# Altium schematic symbol library Sch_components.SchLib: 34 symbols (part 1 of 2)
Pins are listed as number, name and electrical type; pins without a type are passive.

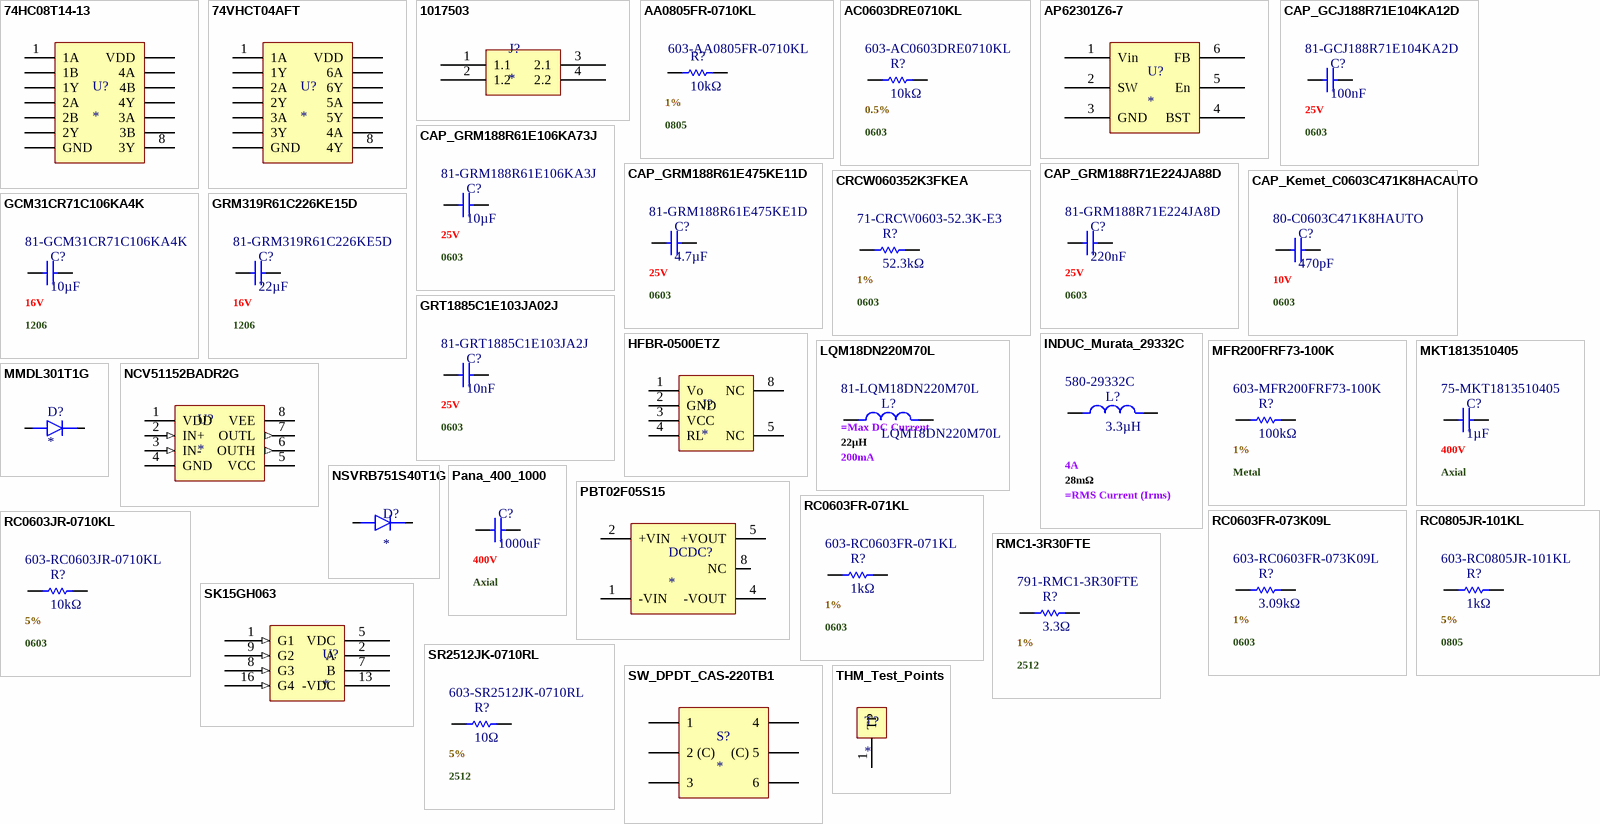
[diagram p0: symbols 74HC08T14-13 to THM_Test_Points]

## 74HC08T14-13
designator U?
footprint 74HC08T14-13 (TSOP, 14-Leads, Body 5,00x4,40mm, Pitch 0,65mm, IPC Medium Density)
pins: 1 1A, 2 1B, 3 1Y, 4 2A, 5 2B, 6 2Y, 7 GND, 8 3Y, 9 3B, 10 3A, 11 4Y, 12 4B, 13 4A, 14 VDD

## 74VHCT04AFT
designator U?
footprint 74VHCT04AFT (TSOP, 14-Leads, Body 5,00x4,40mm, Pitch 0,65mm, IPC Medium Density)
pins: 1 1A, 2 1Y, 3 2A, 4 2Y, 5 3A, 6 3Y, 7 GND, 8 4Y, 9 4A, 10 5Y, 11 5A, 12 6Y, 13 6A, 14 VDD

## 1017503
designator J?
footprint CONN_1017491
pins: 1 1.1, 2 1.2, 3 2.1 (power), 4 2.2 (power)

## AA0805FR-0710KL
designator R?, comment 10kΩ  .Case/Package: 0805  .Tolerance: 1%  Supplier Part Number 2: 603-AA0805FR-0710KL
Fixed Resistor, Metal Glaze/thick Film, 0.125W, 10000ohm, 150V, 1% +/-Tol, 150ppm/Cel, Surface Mount, 0805; Manufacturer: Yageo Group; Manufacturer Part Number: AA0805FR-0710KL; Power Dissipation: 125mW; Temperature Coefficient: 100ppm/°C; Supplier 1: Mouser; RoHS: Compliant; Category: Chip SMD Resistors; Stock 1: 25236; Pricing 1: 1=0,1, 10=0,010, 50=0,010, 100=0,006, 1000=0,006, 10000=0,004 (USD); Case/Package: 0805; Case Code (Imperial): 0805; Case Code (Metric): 2012; China RoHS: Non-Compliant; Composition: Thick Film; Contact Plating: Tin; Country of Origin: Mainland China, Taiwan; Depth: 1.25mm; Export Control Classification Number (ECCN) Code: EAR99; Height: 500µm; Harmonized Tariff Schedule (HTS) Code: 8533.21.00.30; Introduction Date: 2004-09-22; Length: 2mm; Lifecycle Status: Production; Max Operating Temperature: 155°C; Military Standard: Not; Min Operating Temperature: -55°C; Mount: Surface Mount; Number of Pins: 2; Number of Terminals: 2; Packaging: Tape & Reel; Power Rating: 125mW; Radiation Hardening: No; REACH SVHC: Yes; Resistance: 10kΩ; Schedule B: 8533210045; Termination: SMD/SMT; Tolerance: 1%; Voltage Rating: 150V; Voltage Rating (DC): 150V; Width: 1.25mm; Working Voltage: 150V; ComponentLink1URL: https://datasheet.octopart.com:443/RC0805JR-101KL-Yageo-datasheet-175887523.pdf?src-supplier=IHS; ComponentLink1Description: https://datasheet.octopart.com:443/RC0805JR-101KL-Yageo-datasheet-175887523.pdf?src-supplier=IHS; ComponentLink2URL: https://datasheet.octopart.com:443/RC0805JR-101KL-Yageo-datasheet-8330313.pdf?src-supplier=element14+APAC; ComponentLink2Description: https://datasheet.octopart.com:443/RC0805JR-101KL-Yageo-datasheet-8330313.pdf?src-supplier=element14+APAC; ComponentLink3URL: https://datasheet.octopart.com/RC0805JR-101KL-Yageo-datasheet-73766026.pdf; ComponentLink3Description: https://datasheet.octopart.com/RC0805JR-101KL-Yageo-datasheet-73766026.pdf; ComponentLink4URL: http://sigma.octopart.com:80/conflict_mineral_statement/Yageo-company-3.pdf?src-supplier=Compliance+Statements; ComponentLink4Description: http://sigma.octopart.com:80/conflict_mineral_statement/Yageo-company-3.pdf?src-supplier=Compliance+Statements; ComponentLink5URL: http://sigma.octopart.com:80/rohs_statement/Yageo-company-2.pdf?src-supplier=Compliance+Statements; ComponentLink5Description: http://sigma.octopart.com:80/rohs_statement/Yageo-company-2.pdf?src-supplier=Compliance+Statements; Supplier 2: Mouser; Stock 2: 14567; Pricing 2: 1=0,1, 10=0,015, 50=0,015, 100=0,015, 1000=0,015, 10000=0,012 (USD); Features: Anti-Sulfur, Automotive AEC-Q200, Moisture Resistant; Max Power Dissipation: 125mW; Number of Terminations: 2; ComponentLink6URL: https://datasheet.octopart.com:443/AA0805FR-0710KL-Yageo-datasheet-178056446.pdf?src-supplier=IHS; ComponentLink6Description: https://datasheet.octopart.com:443/AA0805FR-0710KL-Yageo-datasheet-178056446.pdf?src-supplier=IHS
footprint RC0805JR-101KL (Chip Resistor, 2-Leads, Body 2,00x1,25mm, IPC Medium Density)
pins: 1, 2

## AC0603DRE0710KL
designator R?, comment 10kΩ  .Case/Package: 0603  .Tolerance: 0.5%  Supplier Part Number 1: 603-AC0603DRE0710KL
Chip Resistor Automotive Precision Grade Thick Film 0603 10kOhm 0.5% Paper T/R; Manufacturer: Yageo Group; Manufacturer Part Number: AC0603DRE0710KL; Power Dissipation: 100mW; Temperature Coefficient: 50ppm/°C; Working Voltage: 75V; Supplier 1: Mouser; RoHS: Compliant; Category: Chip SMD Resistors; Stock 1: 3496; Pricing 1: 1=0,11, 10=0,061, 50=0,061, 100=0,045, 1000=0,031, 10000=0,02 (USD); Case/Package: 0603; China RoHS: Non-Compliant; Country of Origin: Mainland China, Taiwan; Export Control Classification Number (ECCN) Code: EAR99; Height: 450µm; Harmonized Tariff Schedule (HTS) Code: 8533.21.00.30; Introduction Date: 2016-03-14; Length: 1.6mm; Lifecycle Status: Production; Max Operating Temperature: 155°C; Min Operating Temperature: -55°C; Mount: Surface Mount; Number of Terminals: 2; Packaging: Tape & Reel; REACH SVHC: Yes; Resistance: 10kΩ; Tolerance: 0.5%; Width: 800µm; ComponentLink1URL: https://datasheet.octopart.com:443/AC0603DRE0710KL-Yageo-datasheet-182189378.pdf?src-supplier=IHS; ComponentLink1Description: https://datasheet.octopart.com:443/AC0603DRE0710KL-Yageo-datasheet-182189378.pdf?src-supplier=IHS; ComponentLink2URL: https://datasheet.octopart.com:443/AC0603DRE0710KL-Yageo-datasheet-178509465.pdf?src-supplier=Newark; ComponentLink2Description: https://datasheet.octopart.com:443/AC0603DRE0710KL-Yageo-datasheet-178509465.pdf?src-supplier=Newark; ComponentLink3URL: https://datasheet.octopart.com/AC0603DRE0710KL-Yageo-datasheet-12512238.pdf; ComponentLink3Description: https://datasheet.octopart.com/AC0603DRE0710KL-Yageo-datasheet-12512238.pdf; ComponentLink4URL: http://sigma.octopart.com:80/conflict_mineral_statement/Yageo-company-3.pdf?src-supplier=Compliance+Statements; ComponentLink4Description: http://sigma.octopart.com:80/conflict_mineral_statement/Yageo-company-3.pdf?src-supplier=Compliance+Statements; ComponentLink5URL: http://sigma.octopart.com:80/rohs_statement/Yageo-company-2.pdf?src-supplier=Compliance+Statements; ComponentLink5Description: http://sigma.octopart.com:80/rohs_statement/Yageo-company-2.pdf?src-supplier=Compliance+Statements
footprint R0603 - YAGEO
pins: 1, 2

## AP62301Z6-7
designator U?
Reguladores de voltaje de conmutación DCDC Conv HV Buck SOT563(STD) T&R 3K
footprint AP62301Z6-6N (SOTFL, 6-Leads, Body 1,60x1,60mm, Pitch 0,50mm, IPC Medium Density)
pins: 1 Vin, 2 SW, 3 GND, 4 BST, 5 En, 6 FB

## CAP_GCJ188R71E104KA12D
designator C?, comment 100nF  .Case/Package: 0603  .Voltage Rating (DC): 25V  Supplier Part Number 1: 81-GCJ188R71E104KA2D
Ceramic Capacitor, Ceramic, 25V, 10% +Tol, 10% -Tol, X7R, 15% TC, 0.1uF, Surface Mount, 0603; Manufacturer: Murata; Manufacturer Part Number: GCJ188R71E104KA12D; Manufacturer Lifecycle Status: IN PRODUCTION; Supplier 1: Mouser; RoHS: Compliant; Category: Ceramic Capacitors; Stock 1: 19671; Pricing 1: 1=0,13, 10=0,051, 50=0,051, 100=0,043, 1000=0,029, 10000=0,022 (USD); Capacitance: 100nF; Case/Package: 0603; Dielectric Material: Ceramic; Height: 800µm; Length: 1.6mm; Lifecycle Status: Production; Material: Ceramic; Max Operating Temperature: 125°C; Min Operating Temperature: -55°C; Mount: Surface Mount; Number of Terminals: 2; REACH SVHC: Yes; Schedule B: 8532240020, 8532240020|8532240020, 8532240020|8532240020|8532240020, 8532240020|8532240020|8532240020|8532240020; Thickness: 800µm; Tolerance: 10%; Voltage Rating: 25V; Voltage Rating (DC): 25V; Width: 800µm; ComponentLink1URL: https://datasheet.octopart.com:443/GCJ188R71E104KA12D-Murata-datasheet-149522263.pdf?src-supplier=Newark; ComponentLink1Description: https://datasheet.octopart.com:443/GCJ188R71E104KA12D-Murata-datasheet-149522263.pdf?src-supplier=Newark; ComponentLink2URL: https://datasheet.octopart.com:443/GCJ188R71E104KA12D-Murata-datasheet-141264622.pdf?src-supplier=Geoflip; ComponentLink2Description: https://datasheet.octopart.com:443/GCJ188R71E104KA12D-Murata-datasheet-141264622.pdf?src-supplier=Geoflip; ComponentLink3URL: https://datasheet.octopart.com:443/GCJ188R71E104KA12D-Murata-datasheet-140654708.pdf?src-supplier=Ciiva; ComponentLink3Description: https://datasheet.octopart.com:443/GCJ188R71E104KA12D-Murata-datasheet-140654708.pdf?src-supplier=Ciiva; ComponentLink4URL: https://datasheet.octopart.com:443/GCJ188R71E104KA12D-Murata-datasheet-138714381.pdf?src-supplier=Ciiva; ComponentLink4Description: https://datasheet.octopart.com:443/GCJ188R71E104KA12D-Murata-datasheet-138714381.pdf?src-supplier=Ciiva; ComponentLink5URL: https://datasheet.octopart.com:443/GCJ188R71E104KA12D-Murata-datasheet-165611796.pdf?src-supplier=TME; ComponentLink5Description: https://datasheet.octopart.com:443/GCJ188R71E104KA12D-Murata-datasheet-165611796.pdf?src-supplier=TME; ComponentLink6URL: http://sigma.octopart.com:80/reach_statement/Murata-company-16.pdf?src-supplier=Compliance+Statements; ComponentLink6Description: http://sigma.octopart.com:80/reach_statement/Murata-company-16.pdf?src-supplier=Compliance+Statements
footprint GRM188R71E224JA88D (Chip Capacitor, 2-Leads, Body 1,60x0,80mm, IPC Medium Density)
pins: 1, 2

## CAP_GRM188R61E106KA73J
designator C?, comment 10µF  .Case/Package: 0603  .Voltage Rating (DC): 25V  Supplier Part Number 1: 81-GRM188R61E106KA3J
Multilayer Ceramic Capacitor, 10 uF, 25 V, 10%, X5R, 0603 1608 Metric - T/R; Manufacturer: Murata; Manufacturer Part Number: GRM188R61E106KA73J; Manufacturer Lifecycle Status: IN PRODUCTION; Supplier 1: Mouser; RoHS: Compliant; Category: Ceramic Capacitors; Stock 1: 115551; Pricing 1: 1=0,23, 10=0,097, 50=0,097, 100=0,086, 1000=0,06, 10000=0,047 (USD); Capacitance: 10µF; Case/Package: 0603; Dielectric: X5R; Dielectric Material: Ceramic; Height: 800µm; Length: 1.6mm; Lifecycle Status: Production; Material: Ceramic; Max Operating Temperature: 85°C; Min Operating Temperature: -55°C; Mount: Surface Mount; Number of Terminals: 2; REACH SVHC: Yes; Thickness: 800µm; Tolerance: 10%; Voltage Rating: 25V; Voltage Rating (DC): 25V; Width: 800µm; ComponentLink1URL: https://datasheet.octopart.com:443/GRM188R61E106KA73J-Murata-datasheet-165579666.pdf?src-supplier=TME; ComponentLink1Description: https://datasheet.octopart.com:443/GRM188R61E106KA73J-Murata-datasheet-165579666.pdf?src-supplier=TME; ComponentLink2URL: https://datasheet.octopart.com:443/GRM188R61E106KA73J-Murata-datasheet-141274968.pdf?src-supplier=Ciiva; ComponentLink2Description: https://datasheet.octopart.com:443/GRM188R61E106KA73J-Murata-datasheet-141274968.pdf?src-supplier=Ciiva; ComponentLink3URL: https://datasheet.octopart.com:443/GRM188R61E106KA73J-Murata-datasheet-140704821.pdf?src-supplier=Ciiva; ComponentLink3Description: https://datasheet.octopart.com:443/GRM188R61E106KA73J-Murata-datasheet-140704821.pdf?src-supplier=Ciiva; ComponentLink4URL: https://datasheet.octopart.com:443/GRM188R61E106KA73J-Murata-datasheet-138742889.pdf?src-supplier=Ciiva; ComponentLink4Description: https://datasheet.octopart.com:443/GRM188R61E106KA73J-Murata-datasheet-138742889.pdf?src-supplier=Ciiva; ComponentLink5URL: https://datasheet.octopart.com/GRM188R61E106KA73J-Murata-datasheet-12515295.pdf; ComponentLink5Description: https://datasheet.octopart.com/GRM188R61E106KA73J-Murata-datasheet-12515295.pdf; ComponentLink6URL: https://datasheet.octopart.com/GRM188R61E106KA73J-Murata-datasheet-12510076.pdf; ComponentLink6Description: https://datasheet.octopart.com/GRM188R61E106KA73J-Murata-datasheet-12510076.pdf; ComponentLink7URL: https://datasheet.octopart.com/GRM188R61E106KA73J-Murata-datasheet-11978611.pdf; ComponentLink7Description: https://datasheet.octopart.com/GRM188R61E106KA73J-Murata-datasheet-11978611.pdf; ComponentLink8URL: https://datasheet.octopart.com/GRM188R61E106KA73J-Murata-datasheet-10025737.pdf; ComponentLink8Description: https://datasheet.octopart.com/GRM188R61E106KA73J-Murata-datasheet-10025737.pdf; ComponentLink9URL: https://datasheet.octopart.com/GRM188R61E106KA73J-Murata-datasheet-8819587.pdf; ComponentLink9Description: https://datasheet.octopart.com/GRM188R61E106KA73J-Murata-datasheet-8819587.pdf; ComponentLink10URL: http://sigma.octopart.com:80/reach_statement/Murata-company-16.pdf?src-supplier=Compliance+Statements; ComponentLink10Description: http://sigma.octopart.com:80/reach_statement/Murata-company-16.pdf?src-supplier=Compliance+Statements
footprint GRM188R71E224JA88D (Chip Capacitor, 2-Leads, Body 1,60x0,80mm, IPC Medium Density)
pins: 1, 2

## CAP_GRM188R61E475KE11D
designator C?, comment 4.7µF  .Case/Package: 0603  .Voltage Rating (DC): 25V  Supplier Part Number 1: 81-GRM188R61E475KE1D
0603 4.7 uF 25 V ±10 % Tolerance X5R SMT Multilayer Ceramic Capacitor; Manufacturer: Murata; Manufacturer Part Number: GRM188R61E475KE11D; Manufacturer Lifecycle Status: IN PRODUCTION; Tolerance: 10%; Supplier 1: Mouser; RoHS: Compliant; Category: Ceramic Capacitors; Stock 1: 187011; Pricing 1: 1=0,1, 10=0,036, 50=0,036, 100=0,036, 1000=0,036, 10000=0,03 (USD); Capacitance: 4.7µF; Case/Package: 0603; Case Code (Imperial): 0603; Case Code (Metric): 1608; Depth: 800µm; Dielectric: X5R; Dielectric Material: Ceramic; Height: 800µm; Lead Free: Lead Free; Length: 1.6mm; Lifecycle Status: Production; Material: Ceramic; Max Operating Temperature: 85°C; Min Operating Temperature: -55°C; Mount: Surface Mount; Number of Terminals: 2; REACH SVHC: Yes; Schedule B: 8532240020, 8532240020|8532240020, 8532240020|8532240020|8532240020, 8532240020|8532240020|8532240020|8532240020; Thickness: 800µm; Voltage: 25V; Voltage Rating: 25V; Voltage Rating (DC): 25V; Width: 800µm; ComponentLink1URL: https://datasheet.octopart.com:443/GRM188R61E475KE11D-Murata-datasheet-27203393.pdf?src-supplier=Newark; ComponentLink1Description: https://datasheet.octopart.com:443/GRM188R61E475KE11D-Murata-datasheet-27203393.pdf?src-supplier=Newark; ComponentLink2URL: https://datasheet.octopart.com:443/GRM188R61E475KE11D-Murata-datasheet-44506546.pdf?src-supplier=Newark; ComponentLink2Description: https://datasheet.octopart.com:443/GRM188R61E475KE11D-Murata-datasheet-44506546.pdf?src-supplier=Newark; ComponentLink3URL: https://datasheet.octopart.com:443/GRM188R61E475KE11D-Murata-datasheet-62317199.pdf?src-supplier=element14+APAC; ComponentLink3Description: https://datasheet.octopart.com:443/GRM188R61E475KE11D-Murata-datasheet-62317199.pdf?src-supplier=element14+APAC; ComponentLink4URL: https://datasheet.octopart.com:443/GRM188R61E475KE11D-Murata-datasheet-14397282.pdf?src-supplier=Future+Electronics; ComponentLink4Description: https://datasheet.octopart.com:443/GRM188R61E475KE11D-Murata-datasheet-14397282.pdf?src-supplier=Future+Electronics; ComponentLink5URL: https://datasheet.octopart.com:443/GRM188R61E475KE11D-Murata-datasheet-78375012.pdf?src-supplier=Future+Electronics; ComponentLink5Description: https://datasheet.octopart.com:443/GRM188R61E475KE11D-Murata-datasheet-78375012.pdf?src-supplier=Future+Electronics; ComponentLink6URL: https://datasheet.octopart.com:443/GRM188R61E475KE11D-Murata-datasheet-179108037.pdf?src-supplier=Arrow.cn; ComponentLink6Description: https://datasheet.octopart.com:443/GRM188R61E475KE11D-Murata-datasheet-179108037.pdf?src-supplier=Arrow.cn; ComponentLink7URL: https://datasheet.octopart.com:443/GRM188R61E475KE11D-Murata-datasheet-165579666.pdf?src-supplier=TME; ComponentLink7Description: https://datasheet.octopart.com:443/GRM188R61E475KE11D-Murata-datasheet-165579666.pdf?src-supplier=TME; ComponentLink8URL: https://datasheet.octopart.com:443/GRM188R61E475KE11D-Murata-datasheet-141274968.pdf?src-supplier=Ciiva; ComponentLink8Description: https://datasheet.octopart.com:443/GRM188R61E475KE11D-Murata-datasheet-141274968.pdf?src-supplier=Ciiva; ComponentLink9URL: https://datasheet.octopart.com:443/GRM188R61E475KE11D-Murata-datasheet-140705133.pdf?src-supplier=Ciiva; ComponentLink9Description: https://datasheet.octopart.com:443/GRM188R61E475KE11D-Murata-datasheet-140705133.pdf?src-supplier=Ciiva; ComponentLink10URL: https://datasheet.octopart.com:443/GRM188R61E475KE11D-Murata-datasheet-138742897.pdf?src-supplier=Ciiva; ComponentLink10Description: https://datasheet.octopart.com:443/GRM188R61E475KE11D-Murata-datasheet-138742897.pdf?src-supplier=Ciiva; ComponentLink11URL: https://datasheet.octopart.com/GRM188R61E475KE11D-Murata-datasheet-12515295.pdf; ComponentLink11Description: https://datasheet.octopart.com/GRM188R61E475KE11D-Murata-datasheet-12515295.pdf; ComponentLink12URL: https://datasheet.octopart.com/GRM188R61E475KE11D-Murata-datasheet-12510076.pdf; ComponentLink12Description: https://datasheet.octopart.com/GRM188R61E475KE11D-Murata-datasheet-12510076.pdf; ComponentLink13URL: https://datasheet.octopart.com/GRM188R61E475KE11D-Murata-datasheet-11978611.pdf; ComponentLink13Description: https://datasheet.octopart.com/GRM188R61E475KE11D-Murata-datasheet-11978611.pdf; ComponentLink14URL: https://datasheet.octopart.com/GRM188R61E475KE11D-Murata-datasheet-10025737.pdf; ComponentLink14Description: https://datasheet.octopart.com/GRM188R61E475KE11D-Murata-datasheet-10025737.pdf; ComponentLink15URL: https://datasheet.octopart.com/GRM188R61E475KE11D-Murata-datasheet-8819587.pdf; ComponentLink15Description: https://datasheet.octopart.com/GRM188R61E475KE11D-Murata-datasheet-8819587.pdf; ComponentLink16URL: http://sigma.octopart.com:80/reach_statement/Murata-company-16.pdf?src-supplier=Compliance+Statements; ComponentLink16Description: http://sigma.octopart.com:80/reach_statement/Murata-company-16.pdf?src-supplier=Compliance+Statements
footprint GRM188R71E224JA88D (Chip Capacitor, 2-Leads, Body 1,60x0,80mm, IPC Medium Density)
pins: 1, 2

## CAP_GRM188R71E224JA88D
designator C?, comment 220nF  .Case/Package: 0603  .Voltage Rating (DC): 25V  Supplier Part Number 1: 81-GRM188R71E224JA8D
Ceramic Capacitor, Ceramic, 25V, 5% +Tol, 5% -Tol, X7R, 15% TC, 0.22uF, Surface Mount, 0603; Manufacturer: Murata; Manufacturer Part Number: GRM188R71E224JA88D; Manufacturer Lifecycle Status: IN PRODUCTION; Supplier 1: Mouser; RoHS: Compliant; Category: Ceramic Capacitors; Stock 1: 27729; Pricing 1: 1=0,1, 10=0,038, 50=0,038, 100=0,032, 1000=0,021, 10000=0,016 (USD); Capacitance: 220nF; Case/Package: 0603; Dielectric: X7R; Dielectric Material: Ceramic; Height: 800µm; Length: 1.6mm; Lifecycle Status: Production; Material: Ceramic; Max Operating Temperature: 125°C; Min Operating Temperature: -55°C; Mount: Surface Mount; Number of Terminals: 2; REACH SVHC: Yes; Thickness: 800µm; Tolerance: 5%; Voltage Rating: 25V; Voltage Rating (DC): 25V; Width: 800µm; ComponentLink1URL: https://datasheet.octopart.com:443/GRM188R71E224JA88D-Murata-datasheet-141275257.pdf?src-supplier=Geoflip; ComponentLink1Description: https://datasheet.octopart.com:443/GRM188R71E224JA88D-Murata-datasheet-141275257.pdf?src-supplier=Geoflip; ComponentLink2URL: https://datasheet.octopart.com:443/GRM188R71E224JA88D-Murata-datasheet-155239114.pdf?src-supplier=element14+APAC; ComponentLink2Description: https://datasheet.octopart.com:443/GRM188R71E224JA88D-Murata-datasheet-155239114.pdf?src-supplier=element14+APAC; ComponentLink3URL: https://datasheet.octopart.com:443/GRM188R71E224JA88D-Murata-datasheet-165579666.pdf?src-supplier=TME; ComponentLink3Description: https://datasheet.octopart.com:443/GRM188R71E224JA88D-Murata-datasheet-165579666.pdf?src-supplier=TME; ComponentLink4URL: https://datasheet.octopart.com:443/GRM188R71E224JA88D-Murata-datasheet-140705547.pdf?src-supplier=Ciiva; ComponentLink4Description: https://datasheet.octopart.com:443/GRM188R71E224JA88D-Murata-datasheet-140705547.pdf?src-supplier=Ciiva; ComponentLink5URL: https://datasheet.octopart.com:443/GRM188R71E224JA88D-Murata-datasheet-138743095.pdf?src-supplier=Ciiva; ComponentLink5Description: https://datasheet.octopart.com:443/GRM188R71E224JA88D-Murata-datasheet-138743095.pdf?src-supplier=Ciiva; ComponentLink6URL: https://datasheet.octopart.com/GRM188R71E224JA88D-Murata-datasheet-12515295.pdf; ComponentLink6Description: https://datasheet.octopart.com/GRM188R71E224JA88D-Murata-datasheet-12515295.pdf; ComponentLink7URL: https://datasheet.octopart.com/GRM188R71E224JA88D-Murata-datasheet-12510076.pdf; ComponentLink7Description: https://datasheet.octopart.com/GRM188R71E224JA88D-Murata-datasheet-12510076.pdf; ComponentLink8URL: https://datasheet.octopart.com/GRM188R71E224JA88D-Murata-datasheet-11978611.pdf; ComponentLink8Description: https://datasheet.octopart.com/GRM188R71E224JA88D-Murata-datasheet-11978611.pdf; ComponentLink9URL: https://datasheet.octopart.com/GRM188R71E224JA88D-Murata-datasheet-10025737.pdf; ComponentLink9Description: https://datasheet.octopart.com/GRM188R71E224JA88D-Murata-datasheet-10025737.pdf; ComponentLink10URL: https://datasheet.octopart.com/GRM188R71E224JA88D-Murata-datasheet-8819587.pdf; ComponentLink10Description: https://datasheet.octopart.com/GRM188R71E224JA88D-Murata-datasheet-8819587.pdf; ComponentLink11URL: https://datasheet.octopart.com/GRM188R71E224JA88D-Murata-datasheet-38895632.pdf; ComponentLink11Description: https://datasheet.octopart.com/GRM188R71E224JA88D-Murata-datasheet-38895632.pdf; ComponentLink12URL: http://sigma.octopart.com:80/reach_statement/Murata-company-16.pdf?src-supplier=Compliance+Statements; ComponentLink12Description: http://sigma.octopart.com:80/reach_statement/Murata-company-16.pdf?src-supplier=Compliance+Statements
footprint GRM188R71E224JA88D (Chip Capacitor, 2-Leads, Body 1,60x0,80mm, IPC Medium Density)
pins: 1, 2

## CAP_Kemet_C0603C471K8HACAUTO
designator C?, comment 470pF  .Case/Package: 0603  .Voltage Rating (DC): 10V  Supplier Part Number 1: 80-C0603C471K8HAUTO
Cap, 470Pf, 10V, Mlcc, 0603 Rohs Compliant: Yes |Kemet C0603C471K8HACAUTO; Manufacturer: KEMET; Dielectric: X8R; Dielectric Material: Ceramic; Temperature Coefficient: 30ppm/°C; Supplier 1: Mouser; Manufacturer Part Number: C0603C471K8HACAUTO; RoHS: Compliant; Category: Ceramic Capacitors; Stock 1: 9072; Pricing 1: 1=0,1, 10=0,036, 50=0,036, 100=0,031, 1000=0,021, 10000=0,012 (USD); Capacitance: 470pF; Case/Package: 0603; China RoHS: Compliant; Height: 800µm; Lead Free: Lead Free; Length: 1.6mm; Lifecycle Status: Production; Material: Ceramic; Max Operating Temperature: 150°C; Min Operating Temperature: -55°C; Mount: Surface Mount; Number of Terminals: 2; REACH SVHC: Yes; Voltage Rating: 10V; Voltage Rating (DC): 10V; Width: 800µm; ComponentLink1URL: https://datasheet.octopart.com:443/C0603C471K8HACAUTO-KEMET-datasheet-178087918.pdf?src-supplier=IHS; ComponentLink1Description: https://datasheet.octopart.com:443/C0603C471K8HACAUTO-KEMET-datasheet-178087918.pdf?src-supplier=IHS; ComponentLink2URL: https://datasheet.octopart.com:443/C0603C471K8HACAUTO-KEMET-datasheet-137357764.pdf?src-supplier=Upverter; ComponentLink2Description: https://datasheet.octopart.com:443/C0603C471K8HACAUTO-KEMET-datasheet-137357764.pdf?src-supplier=Upverter; ComponentLink3URL: https://datasheet.octopart.com:443/C0603C471K8HACAUTO-KEMET-datasheet-189885776.pdf?src-supplier=element14+APAC; ComponentLink3Description: https://datasheet.octopart.com:443/C0603C471K8HACAUTO-KEMET-datasheet-189885776.pdf?src-supplier=element14+APAC; ComponentLink4URL: https://datasheet.octopart.com:443/C0603C471K8HACAUTO-KEMET-datasheet-170520340.pdf?src-supplier=Newark; ComponentLink4Description: https://datasheet.octopart.com:443/C0603C471K8HACAUTO-KEMET-datasheet-170520340.pdf?src-supplier=Newark; ComponentLink5URL: https://datasheet.octopart.com:443/C0603C471K8HACAUTO-KEMET-datasheet-154276014.pdf?src-supplier=Farnell; ComponentLink5Description: https://datasheet.octopart.com:443/C0603C471K8HACAUTO-KEMET-datasheet-154276014.pdf?src-supplier=Farnell; ComponentLink6URL: https://datasheet.octopart.com/C0603C471K8HACAUTO-KEMET-datasheet-84169754.pdf; ComponentLink6Description: https://datasheet.octopart.com/C0603C471K8HACAUTO-KEMET-datasheet-84169754.pdf
footprint C0603 - MURATA
pins: 1, 2

## CRCW060352K3FKEA
designator R?, comment 52.3kΩ  .Case/Package: 0603  .Tolerance: 1%  Supplier Part Number 1: 71-CRCW0603-52.3K-E3
100mW Thick Film Resistors 75V ±1% ±100ppm/℃ 52.3kΩ 0603 Chip Resistor - Surface Mount ROHS; Manufacturer: Vishay; Manufacturer Part Number: CRCW060352K3FKEA; Temperature Coefficient: 100ppm/°C; Supplier 1: Mouser; RoHS: Compliant; Category: Chip SMD Resistors; Stock 1: 40752; Pricing 1: 1=0,1, 10=0,019, 50=0,019, 100=0,015, 1000=0,009, 10000=0,004 (USD); Case/Package: 0603; Case Code (Imperial): 0603; China RoHS: Non-Compliant; Composition: Thick Film; Contact Plating: Tin; Country of Origin: Israel, Taiwan; Depth: 850µm; Export Control Classification Number (ECCN) Code: EAR99; Features: Automotive AEC-Q200; Height: 450µm; Harmonized Tariff Schedule (HTS) Code: 8533.21.00.30; Introduction Date: 2005-02-16; Lead Free: Lead Free; Length: 1.55mm; Lifecycle Status: Production; Max Operating Temperature: 155°C; Max Power Dissipation: 100mW; Military Standard: Not; Min Operating Temperature: -55°C; Mount: Surface Mount; Number of Pins: 2; Number of Terminals: 2; Number of Terminations: 2; Packaging: Cut Tape; Power Dissipation: 100mW; Power Rating: 100mW; Radiation Hardening: No; REACH SVHC: Yes; Resistance: 52.3kΩ; Schedule B: 8533210045, 8533210045|8533210045, 8533210045|8533210045|8533210045, 8533210045|8533210045|8533210045|8533210045; Termination: SMD/SMT; Tolerance: 1%; Voltage Rating: 75V; Weight: 2.012816mg; Width: 850µm; Working Voltage: 75V; ComponentLink1URL: https://datasheet.octopart.com:443/CRCW060352K3FKEA-Vishay-datasheet-175423584.pdf?src-supplier=IHS; ComponentLink1Description: https://datasheet.octopart.com:443/CRCW060352K3FKEA-Vishay-datasheet-175423584.pdf?src-supplier=IHS; ComponentLink2URL: https://datasheet.octopart.com:443/CRCW060352K3FKEA-Vishay-datasheet-62316122.pdf?src-supplier=Future+Electronics; ComponentLink2Description: https://datasheet.octopart.com:443/CRCW060352K3FKEA-Vishay-datasheet-62316122.pdf?src-supplier=Future+Electronics; ComponentLink3URL: https://datasheet.octopart.com:443/CRCW060352K3FKEA-Vishay-datasheet-5300368.pdf?src-supplier=Future+Electronics; ComponentLink3Description: https://datasheet.octopart.com:443/CRCW060352K3FKEA-Vishay-datasheet-5300368.pdf?src-supplier=Future+Electronics; ComponentLink4URL: https://datasheet.octopart.com:443/CRCW060352K3FKEA.-Vishay-datasheet-83961561.pdf?src-supplier=Newark; ComponentLink4Description: https://datasheet.octopart.com:443/CRCW060352K3FKEA.-Vishay-datasheet-83961561.pdf?src-supplier=Newark; ComponentLink5URL: https://datasheet.octopart.com:443/CRCW060352K3FKEA-Vishay-datasheet-66077789.pdf?src-supplier=Newark; ComponentLink5Description: https://datasheet.octopart.com:443/CRCW060352K3FKEA-Vishay-datasheet-66077789.pdf?src-supplier=Newark; ComponentLink6URL: https://datasheet.octopart.com:443/CRCW060352K3FKEA-Vishay-datasheet-11761042.pdf?src-supplier=Newark; ComponentLink6Description: https://datasheet.octopart.com:443/CRCW060352K3FKEA-Vishay-datasheet-11761042.pdf?src-supplier=Newark; ComponentLink7URL: https://datasheet.octopart.com:443/CRCW060352K3FKEA-Vishay-datasheet-11516975.pdf?src-supplier=Newark; ComponentLink7Description: https://datasheet.octopart.com:443/CRCW060352K3FKEA-Vishay-datasheet-11516975.pdf?src-supplier=Newark; ComponentLink8URL: https://datasheet.octopart.com:443/CRCW060352K3FKEA-Vishay-datasheet-159614168.pdf?src-supplier=Newark; ComponentLink8Description: https://datasheet.octopart.com:443/CRCW060352K3FKEA-Vishay-datasheet-159614168.pdf?src-supplier=Newark; ComponentLink9URL: https://datasheet.octopart.com:443/CRCW060352K3FKEA-Vishay-datasheet-33013972.pdf?src-supplier=Newark; ComponentLink9Description: https://datasheet.octopart.com:443/CRCW060352K3FKEA-Vishay-datasheet-33013972.pdf?src-supplier=Newark; ComponentLink10URL: https://datasheet.octopart.com:443/CRCW060352K3FKEA-Vishay-datasheet-21268114.pdf?src-supplier=Newark; ComponentLink10Description: https://datasheet.octopart.com:443/CRCW060352K3FKEA-Vishay-datasheet-21268114.pdf?src-supplier=Newark; ComponentLink11URL: https://datasheet.octopart.com:443/CRCW060352K3FKEA-Vishay-datasheet-21226360.pdf?src-supplier=Newark; ComponentLink11Description: https://datasheet.octopart.com:443/CRCW060352K3FKEA-Vishay-datasheet-21226360.pdf?src-supplier=Newark; ComponentLink12URL: https://datasheet.octopart.com:443/CRCW060352K3FKEA-Vishay-datasheet-62317937.pdf?src-supplier=element14+APAC; ComponentLink12Description: https://datasheet.octopart.com:443/CRCW060352K3FKEA-Vishay-datasheet-62317937.pdf?src-supplier=element14+APAC; ComponentLink13URL: https://datasheet.octopart.com:443/CRCW060352K3FKEA.-Vishay-datasheet-78776209.pdf?src-supplier=element14+APAC; ComponentLink13Description: https://datasheet.octopart.com:443/CRCW060352K3FKEA.-Vishay-datasheet-78776209.pdf?src-supplier=element14+APAC; ComponentLink14URL: https://datasheet.octopart.com:443/CRCW060352K3FKEA-Vishay-datasheet-14722531.pdf?src-supplier=element14+APAC; ComponentLink14Description: https://datasheet.octopart.com:443/CRCW060352K3FKEA-Vishay-datasheet-14722531.pdf?src-supplier=element14+APAC; ComponentLink15URL: https://datasheet.octopart.com:443/CRCW060352K3FKEA-Vishay-datasheet-5299586.pdf?src-supplier=element14+APAC; ComponentLink15Description: https://datasheet.octopart.com:443/CRCW060352K3FKEA-Vishay-datasheet-5299586.pdf?src-supplier=element14+APAC; ComponentLink16URL: https://datasheet.octopart.com:443/CRCW060352K3FKEA-Vishay-datasheet-10380026.pdf?src-supplier=element14+APAC; ComponentLink16Description: https://datasheet.octopart.com:443/CRCW060352K3FKEA-Vishay-datasheet-10380026.pdf?src-supplier=element14+APAC; ComponentLink17URL: https://datasheet.octopart.com:443/CRCW060352K3FKEA-Vishay-datasheet-137114422.pdf?src-supplier=X-ON; ComponentLink17Description: https://datasheet.octopart.com:443/CRCW060352K3FKEA-Vishay-datasheet-137114422.pdf?src-supplier=X-ON; ComponentLink18URL: https://datasheet.octopart.com:443/CRCW060352K3FKEA-Vishay-Dale-datasheet-47688880.pdf?src-supplier=RS+(Formerly+Allied+Electronics); ComponentLink18Description: https://datasheet.octopart.com:443/CRCW060352K3FKEA-Vishay-Dale-datasheet-47688880.pdf?src-supplier=RS+(Formerly+Allied+Electronics); ComponentLink19URL: https://datasheet.octopart.com:443/CRCW060352K3FKEA-Vishay-datasheet-12001583.pdf?src-supplier=RS+(Formerly+Allied+Electronics); ComponentLink19Description: https://datasheet.octopart.com:443/CRCW060352K3FKEA-Vishay-datasheet-12001583.pdf?src-supplier=RS+(Formerly+Allied+Electronics); ComponentLink20URL: https://datasheet.octopart.com:443/CRCW060352K3FKEA-Vishay-datasheet-5306405.pdf?src-supplier=RS+(Formerly+Allied+Electronics); ComponentLink20Description: https://datasheet.octopart.com:443/CRCW060352K3FKEA-Vishay-datasheet-5306405.pdf?src-supplier=RS+(Formerly+Allied+Electronics); ComponentLink21URL: https://datasheet.octopart.com:443/CRCW060352K3FKEA-Vishay-datasheet-8619608.pdf?src-supplier=element14; ComponentLink21Description: https://datasheet.octopart.com:443/CRCW060352K3FKEA-Vishay-datasheet-8619608.pdf?src-supplier=element14; ComponentLink22URL: https://datasheet.octopart.com:443/CRCW060352K3FKEA-Vishay-datasheet-5377433.pdf?src-supplier=Garrett; ComponentLink22Description: https://datasheet.octopart.com:443/CRCW060352K3FKEA-Vishay-datasheet-5377433.pdf?src-supplier=Garrett; ComponentLink23URL: https://datasheet.octopart.com:443/CRCW060352K3FKEA-Vishay-datasheet-148188.pdf?src-supplier=Garrett; ComponentLink23Description: https://datasheet.octopart.com:443/CRCW060352K3FKEA-Vishay-datasheet-148188.pdf?src-supplier=Garrett; ComponentLink24URL: https://datasheet.octopart.com:443/CRCW060352K3FKEA-Vishay-datasheet-30224.pdf?src-supplier=Garrett; ComponentLink24Description: https://datasheet.octopart.com:443/CRCW060352K3FKEA-Vishay-datasheet-30224.pdf?src-supplier=Garrett; ComponentLink25URL: http://sigma.octopart.com:80/rohs_statement/Vishay-company-15.pdf?src-supplier=Compliance+Statements; ComponentLink25Description: http://sigma.octopart.com:80/rohs_statement/Vishay-company-15.pdf?src-supplier=Compliance+Statements
footprint R0603 - YAGEO
pins: 1, 2

## GCM31CR71C106KA4K
designator C?, comment 10µF  .Case/Package: 1206  .Voltage Rating (DC): 16V  Supplier Part Number 1: 81-GCM31CR71C106KA4K
16V 10uF X7R ±10% 1206 Multilayer Ceramic Capacitors MLCC - SMD/SMT ROHS; Manufacturer: Murata; Manufacturer Part Number: GCM31CR71C106KA64K; Manufacturer Lifecycle Status: IN PRODUCTION; Supplier 1: Mouser; RoHS: Compliant; Category: Ceramic Capacitors; Stock 1: 30347; Pricing 1: 1=0,45, 10=0,234, 50=0,234, 100=0,184, 1000=0,145, 10000=0,118 (USD); Capacitance: 10µF; Case/Package: 1206; Case Code (Imperial): 1206; Case Code (Metric): 3216; Depth: 1.6mm; Dielectric: X7R; Dielectric Material: Ceramic; Export Control Classification Number (ECCN) Code: EAR99; Height: 1.6mm; Harmonized Tariff Schedule (HTS) Code: 8532.24.00.20; Introduction Date: 2007-06-21; Length: 3.2mm; Lifecycle Status: Production; Material: Ceramic; Max Operating Temperature: 125°C; Min Operating Temperature: -55°C; Mount: Surface Mount; Number of Terminals: 2; Packaging: Tape & Reel; Radiation Hardening: No; REACH SVHC: Yes; Schedule B: 8532240020, 8532240020|8532240020, 8532240020|8532240020|8532240020, 8532240020|8532240020|8532240020|8532240020; Termination: SMD/SMT; Thickness: 1.6mm; Tolerance: 10%; Voltage Rating: 16V; Voltage Rating (DC): 16V; Width: 1.6mm; ComponentLink1URL: https://datasheet.octopart.com:443/GCM31CR71C106KA64K-Murata-datasheet-149522739.pdf?src-supplier=Newark; ComponentLink1Description: https://datasheet.octopart.com:443/GCM31CR71C106KA64K-Murata-datasheet-149522739.pdf?src-supplier=Newark; ComponentLink2URL: https://datasheet.octopart.com:443/GCM31CR71C106KA64K-Murata-datasheet-141269144.pdf?src-supplier=Geoflip; ComponentLink2Description: https://datasheet.octopart.com:443/GCM31CR71C106KA64K-Murata-datasheet-141269144.pdf?src-supplier=Geoflip; ComponentLink3URL: https://datasheet.octopart.com:443/GCM31CR71C106KA64K-Murata-datasheet-140661156.pdf?src-supplier=Ciiva; ComponentLink3Description: https://datasheet.octopart.com:443/GCM31CR71C106KA64K-Murata-datasheet-140661156.pdf?src-supplier=Ciiva; ComponentLink4URL: https://datasheet.octopart.com:443/GCM31CR71C106KA64K-Murata-datasheet-138720316.pdf?src-supplier=Ciiva; ComponentLink4Description: https://datasheet.octopart.com:443/GCM31CR71C106KA64K-Murata-datasheet-138720316.pdf?src-supplier=Ciiva; ComponentLink5URL: https://datasheet.octopart.com:443/GCM31CR71C106KA64K-Murata-datasheet-12511495.pdf?src-supplier=TME; ComponentLink5Description: https://datasheet.octopart.com:443/GCM31CR71C106KA64K-Murata-datasheet-12511495.pdf?src-supplier=TME; ComponentLink6URL: https://datasheet.octopart.com/GCM31CR71C106KA64K-Murata-datasheet-14404607.pdf; ComponentLink6Description: https://datasheet.octopart.com/GCM31CR71C106KA64K-Murata-datasheet-14404607.pdf; ComponentLink7URL: http://sigma.octopart.com:80/reach_statement/Murata-company-16.pdf?src-supplier=Compliance+Statements; ComponentLink7Description: http://sigma.octopart.com:80/reach_statement/Murata-company-16.pdf?src-supplier=Compliance+Statements
footprint GCM31CR71C106KA64K (Chip Capacitor, 2-Leads, Body 3,50x1,60mm, IPC Medium Density)
pins: 1, 2

## GRM319R61C226KE15D
designator C?, comment 22µF  .Case/Package: 1206  .Voltage Rating (DC): 16V  Supplier Part Number 1: 81-GRM319R61C226KE5D
16V 22uF X5R ±10% 1206 Multilayer Ceramic Capacitors MLCC - SMD/SMT ROHS; Manufacturer: Murata; Manufacturer Part Number: GRM319R61C226KE15D; Manufacturer Lifecycle Status: IN PRODUCTION; Supplier 1: Mouser; RoHS: Compliant; Category: Ceramic Capacitors; Stock 1: 9742; Pricing 1: 1=0,38, 10=0,17, 50=0,17, 100=0,151, 1000=0,111, 10000=0,093 (USD); Capacitance: 22µF; Case/Package: 1206; Dielectric: X5R; Dielectric Material: Ceramic; Height: 850µm; Length: 3.2mm; Lifecycle Status: Production; Material: Ceramic; Max Operating Temperature: 85°C; Min Operating Temperature: -55°C; Mount: Surface Mount; Number of Terminals: 2; REACH SVHC: Yes; Schedule B: 8532240020; Thickness: 850µm; Tolerance: 10%; Voltage Rating: 16V; Voltage Rating (DC): 16V; Width: 1.6mm; ComponentLink1URL: https://datasheet.octopart.com:443/GRM319R61C226KE15D-Murata-datasheet-141279449.pdf?src-supplier=Geoflip; ComponentLink1Description: https://datasheet.octopart.com:443/GRM319R61C226KE15D-Murata-datasheet-141279449.pdf?src-supplier=Geoflip; ComponentLink2URL: https://datasheet.octopart.com:443/GRM319R61C226KE15D-Murata-datasheet-165579666.pdf?src-supplier=TME; ComponentLink2Description: https://datasheet.octopart.com:443/GRM319R61C226KE15D-Murata-datasheet-165579666.pdf?src-supplier=TME; ComponentLink3URL: https://datasheet.octopart.com:443/GRM319R61C226KE15D-Murata-datasheet-140708055.pdf?src-supplier=Ciiva; ComponentLink3Description: https://datasheet.octopart.com:443/GRM319R61C226KE15D-Murata-datasheet-140708055.pdf?src-supplier=Ciiva; ComponentLink4URL: https://datasheet.octopart.com:443/GRM319R61C226KE15D-Murata-datasheet-138745361.pdf?src-supplier=Ciiva; ComponentLink4Description: https://datasheet.octopart.com:443/GRM319R61C226KE15D-Murata-datasheet-138745361.pdf?src-supplier=Ciiva; ComponentLink5URL: https://datasheet.octopart.com/GRM319R61C226KE15D-Murata-datasheet-12515295.pdf; ComponentLink5Description: https://datasheet.octopart.com/GRM319R61C226KE15D-Murata-datasheet-12515295.pdf; ComponentLink6URL: https://datasheet.octopart.com/GRM319R61C226KE15D-Murata-datasheet-12510076.pdf; ComponentLink6Description: https://datasheet.octopart.com/GRM319R61C226KE15D-Murata-datasheet-12510076.pdf; ComponentLink7URL: https://datasheet.octopart.com/GRM319R61C226KE15D-Murata-datasheet-11978611.pdf; ComponentLink7Description: https://datasheet.octopart.com/GRM319R61C226KE15D-Murata-datasheet-11978611.pdf; ComponentLink8URL: https://datasheet.octopart.com/GRM319R61C226KE15D-Murata-datasheet-10025737.pdf; ComponentLink8Description: https://datasheet.octopart.com/GRM319R61C226KE15D-Murata-datasheet-10025737.pdf; ComponentLink9URL: https://datasheet.octopart.com/GRM319R61C226KE15D-Murata-datasheet-8819587.pdf; ComponentLink9Description: https://datasheet.octopart.com/GRM319R61C226KE15D-Murata-datasheet-8819587.pdf; ComponentLink10URL: https://datasheet.octopart.com:443/GRM319R61C226KE15D-Murata-datasheet-142045692.pdf?src-supplier=Arrow.cn; ComponentLink10Description: https://datasheet.octopart.com:443/GRM319R61C226KE15D-Murata-datasheet-142045692.pdf?src-supplier=Arrow.cn; ComponentLink11URL: http://sigma.octopart.com:80/reach_statement/Murata-company-16.pdf?src-supplier=Compliance+Statements; ComponentLink11Description: http://sigma.octopart.com:80/reach_statement/Murata-company-16.pdf?src-supplier=Compliance+Statements
footprint GCM31CR71C106KA64K (Chip Capacitor, 2-Leads, Body 3,50x1,60mm, IPC Medium Density)
pins: 1, 2

## GRT1885C1E103JA02J
designator C?, comment 10nF  .Case/Package: 0603  .Voltage Rating (DC): 25V  Supplier Part Number 1: 81-GRT1885C1E103JA2J
Multi-Layer Ceramic Capacitor 0.01uF 25VDC C0G 5% 0603 Paper T/R; Manufacturer: Murata; Manufacturer Part Number: GRT1885C1E103JA02J; Manufacturer Lifecycle Status: IN PRODUCTION; Temperature Coefficient: 30ppm/°C; Supplier 1: Mouser; RoHS: Compliant; Category: Ceramic Capacitors; Stock 1: 7621; Pricing 1: 1=0,15, 10=0,061, 50=0,061, 100=0,053, 1000=0,036, 10000=0,025 (USD); Capacitance: 10nF; Case/Package: 0603; Dielectric Material: Ceramic; Height: 800µm; Length: 1.6mm; Lifecycle Status: Production; Material: Ceramic; Max Operating Temperature: 125°C; Min Operating Temperature: -55°C; Mount: Surface Mount; Number of Terminals: 2; REACH SVHC: Yes; Thickness: 800µm; Tolerance: 5%; Voltage Rating: 25V; Voltage Rating (DC): 25V; Width: 800µm; ComponentLink1URL: https://datasheet.octopart.com:443/GRT1885C1E103JA02J-Murata-datasheet-141284073.pdf?src-supplier=Geoflip; ComponentLink1Description: https://datasheet.octopart.com:443/GRT1885C1E103JA02J-Murata-datasheet-141284073.pdf?src-supplier=Geoflip; ComponentLink2URL: https://datasheet.octopart.com:443/GRT1885C1E103JA02J-Murata-datasheet-140711081.pdf?src-supplier=Ciiva; ComponentLink2Description: https://datasheet.octopart.com:443/GRT1885C1E103JA02J-Murata-datasheet-140711081.pdf?src-supplier=Ciiva; ComponentLink3URL: https://datasheet.octopart.com:443/GRT1885C1E103JA02J-Murata-datasheet-138748798.pdf?src-supplier=Ciiva; ComponentLink3Description: https://datasheet.octopart.com:443/GRT1885C1E103JA02J-Murata-datasheet-138748798.pdf?src-supplier=Ciiva; ComponentLink4URL: http://sigma.octopart.com:80/reach_statement/Murata-company-16.pdf?src-supplier=Compliance+Statements; ComponentLink4Description: http://sigma.octopart.com:80/reach_statement/Murata-company-16.pdf?src-supplier=Compliance+Statements
footprint GRM188R71E224JA88D (Chip Capacitor, 2-Leads, Body 1,60x0,80mm, IPC Medium Density)
pins: 1, 2

## HFBR-0500ETZ
designator J?
Receptor Connector Optical Fiber
footprint HFBR-0500ETZ
pins: 1 Vo, 2 GND, 3 VCC, 4 RL, 5 NC, 8 NC

## INDUC_Murata_29332C
designator L?, comment 3.3µH  .Value: 28mΩ  .Max DC Current: 4A  Supplier Part Number 1: 580-29332C
Inductor Power Shielded Bobbin Core 3.3uH 10KHz 4A 0.028Ohm DCR T/R; Manufacturer: Murata Power Solutions; Manufacturer Part Number: 29332C; Number of Circuits: 1; Supplier 1: Mouser; RoHS: Compliant; Category: Fixed Inductors; Stock 1: 1763; Pricing 1: 1=0,55, 10=0,543, 50=0,543, 100=0,543, 1000=0,48, 10000=0,48 (USD); Case/Package: 2828; China RoHS: Compliant; Composition: Wirewound; Current Rating: 4A; DC Resistance (DCR): 28mΩ; Depth: 7.2mm; Export Control Classification Number (ECCN) Code: EAR99; Height: 4mm; Height - Seated (Max): 3.9878mm; Harmonized Tariff Schedule (HTS) Code: 8504.50.80.00; Inductance: 3.3µH; Introduction Date: 2009-03-23; Lead Free: Lead Free; Length: 7.2mm; Lifecycle Status: Production; Max Current Rating: 4A; Max DC Current: 4A; Max Operating Temperature: 85°C; Min Operating Temperature: -40°C; Mount: Surface Mount; Number of Pins: 2; Number of Terminals: 2; Radiation Hardening: No; REACH SVHC: Yes; Resistance: 28mΩ; Shielding: Shielded; Termination: SMD/SMT; Test Frequency: 10kHz; Width: 7.2mm; ComponentLink1URL: https://datasheet.octopart.com:443/29332C-Murata-Power-Solutions-datasheet-10978166.pdf?src-supplier=Newark; ComponentLink1Description: https://datasheet.octopart.com:443/29332C-Murata-Power-Solutions-datasheet-10978166.pdf?src-supplier=Newark; ComponentLink2URL: https://datasheet.octopart.com:443/29332C-Murata-Power-Solutions-datasheet-8448240.pdf?src-supplier=Newark; ComponentLink2Description: https://datasheet.octopart.com:443/29332C-Murata-Power-Solutions-datasheet-8448240.pdf?src-supplier=Newark; ComponentLink3URL: https://datasheet.octopart.com:443/29332C-Murata-Power-Solutions-datasheet-22087498.pdf?src-supplier=element14+APAC; ComponentLink3Description: https://datasheet.octopart.com:443/29332C-Murata-Power-Solutions-datasheet-22087498.pdf?src-supplier=element14+APAC; ComponentLink4URL: http://sigma.octopart.com:80/reach_statement/Murata-company-16.pdf?src-supplier=Compliance+Statements; ComponentLink4Description: http://sigma.octopart.com:80/reach_statement/Murata-company-16.pdf?src-supplier=Compliance+Statements; .RMS Current (Irms): =RMS Current (Irms)
footprint 29332C (Precision Wire Wound Inductor, 2-Leads, Body 5,00x7,00mm, IPC Medium Density, 3.3uH)
pins: 1, 2

## LQM18DN220M70L
designator L?  .RMS Current (Irms): 200mA  .Value: 22µH  Supplier Part Number 1: 81-LQM18DN220M70L
Inductor Power Shielded Multi-Layer 22uH 20% 1MHz Ferrite 0.2A 3.12Ohm DCR 0603 T/R; Manufacturer: Murata; DC Resistance (DCR): 3.12Ω; Number of Circuits: 1; Saturation Current: 50mA; Self Resonant Frequency: 15MHz; Shielding: Yes; Supplier 1: Mouser; Manufacturer Part Number: LQM18DN220M70L; RoHS: Compliant; Category: Fixed Inductors; Stock 1: 8810; Pricing 1: 1=0,12, 10=0,096, 50=0,096, 100=0,079, 1000=0,065, 10000=0,053 (USD); Case/Package: 0603; Core Material: Ferrite; Height: 800µm; Inductance: 22µH; Lifecycle Status: Production; Max Current Rating: 200mA; Max Operating Temperature: 125°C; Min Operating Temperature: -55°C; Number of Terminals: 2; REACH SVHC: Yes; Resistance: 3.12Ω; RMS Current (Irms): 200mA; Series Resistance: 3.12Ω; Test Frequency: 1MHz; Tolerance: 20%; Width: 800µm; ComponentLink1URL: http://sigma.octopart.com:80/reach_statement/Murata-company-16.pdf?src-supplier=Compliance+Statements; ComponentLink1Description: http://sigma.octopart.com:80/reach_statement/Murata-company-16.pdf?src-supplier=Compliance+Statements; .Max DC Current: =Max DC Current
footprint LQM18DN220M70L (Chip Inductor, 2-Leads, Body 1,60x0,80mm, IPC Medium Density)
pins: 1, 2

## MFR200FRF73-100K
designator R?, comment 100kΩ  .Case/Package: Metal  .Tolerance: 1%  Supplier Part Number 1: 603-MFR200FRF73-100K
Fixed Resistor, Metal Film, 2W, 100000ohm, 500V, 1% +/-Tol, 100ppm/Cel, Through Hole Mount; Manufacturer: Yageo Group; Manufacturer Part Number: MFR200FRF73-100K; Lead Diameter: 800µm; Temperature Coefficient: 100ppm/°C; Supplier 1: Mouser; RoHS: Compliant; Category: Through-Hole Resistors; Stock 1: 2527; Pricing 1: 1=0,39, 10=0,285, 50=0,217, 100=0,128, 1000=0,079, 10000=0,064 (USD); Case/Package: Metal; China RoHS: Compliant; Country of Origin: Mainland China; Diameter: 5mm; Export Control Classification Number (ECCN) Code: EAR99; Harmonized Tariff Schedule (HTS) Code: 8533.21.00.90; Introduction Date: 2010-12-31; Length: 15.5mm; Lifecycle Status: Production; Max Operating Temperature: 155°C; Min Operating Temperature: -55°C; Number of Terminals: 2; Packaging: Tape and Reel; Power Dissipation: 2W; Power Rating: 2W; REACH SVHC: Yes; Resistance: 100kΩ; Termination: Axial; Tolerance: 1%; Voltage Rating (DC): 500V; Working Voltage: 500V; ComponentLink1URL: https://datasheet.octopart.com:443/MFR200FRF73-100K-Yageo-datasheet-175665672.pdf?src-supplier=IHS; ComponentLink1Description: https://datasheet.octopart.com:443/MFR200FRF73-100K-Yageo-datasheet-175665672.pdf?src-supplier=IHS; ComponentLink2URL: https://datasheet.octopart.com/MFR200FRF73-100K-Yageo-datasheet-28066692.pdf; ComponentLink2Description: https://datasheet.octopart.com/MFR200FRF73-100K-Yageo-datasheet-28066692.pdf; ComponentLink3URL: http://sigma.octopart.com:80/conflict_mineral_statement/Yageo-company-3.pdf?src-supplier=Compliance+Statements; ComponentLink3Description: http://sigma.octopart.com:80/conflict_mineral_statement/Yageo-company-3.pdf?src-supplier=Compliance+Statements; ComponentLink4URL: http://sigma.octopart.com:80/rohs_statement/Yageo-company-2.pdf?src-supplier=Compliance+Statements; ComponentLink4Description: http://sigma.octopart.com:80/rohs_statement/Yageo-company-2.pdf?src-supplier=Compliance+Statements
footprint MFR200FRF73-100K
pins: 1, 2